# Altium footprint library Copy of PcbLib4.PcbLib: 1 footprints
Each footprint in its own frame and in the unit in brackets; x right, y up, seen from the top. Pads: shape width x height; smd on the part's side, far side on the other; paste and mask are expansions set on the pad; w line width, h text height; cw(c..) or ccw(c..) is an arc to the next point about the centre after c.
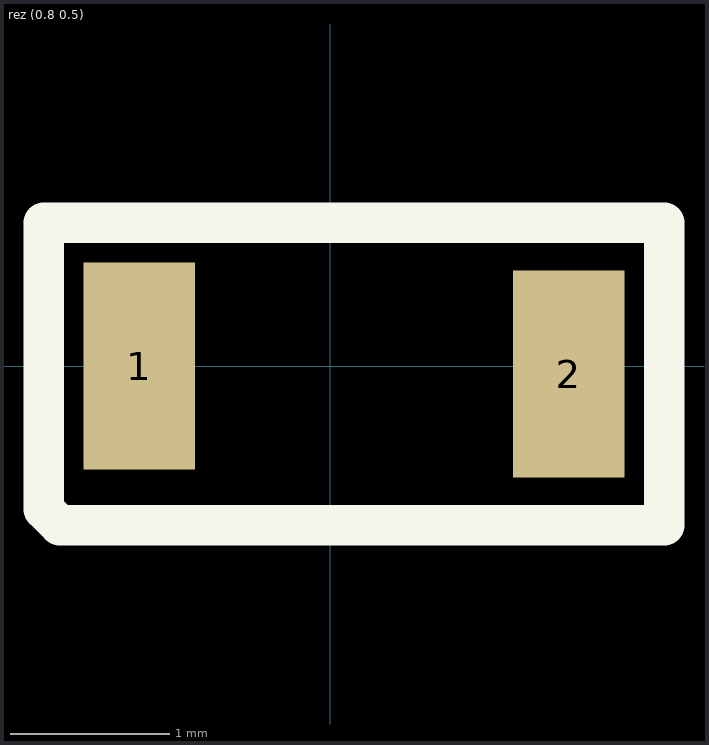
[diagram p0: the footprint, top view; thin cyan lines are the x and y axes]

## rez (0.8 0.5) [mm]
pads (2):
  rect 0.7x1.3 smd: 1(-1.2,0) 2(1.5,-0.05)
Top Overlay:
  lines w0.254: -1.8,-0.9 -1.8,0.9 -1.4,0.9 1.5,0.9 2.1,0.9 2.1,-1 1.5,-1 -1.5,-1 -1.7,-1 -1.8,-0.9